# EAGLE library part MPU6050 (library SpatMuy2022)
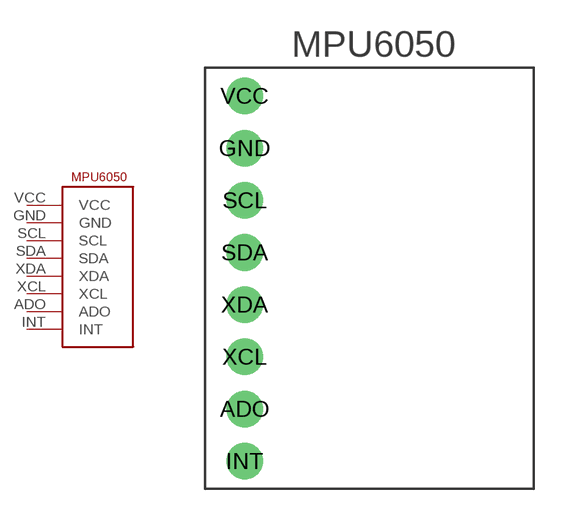
[diagram p3: symbol with the pads of MPU6050; footprint MPU6050]

Designator prefix -

## MPU6050  [MPU6050]
ADO  ADO
GND  GND
INT  INT
SCL  SCL
SDA  SDA
VCC  VCC
XCL  XCL
XDA  XDA

## Footprint MPU6050 (pad centres in mm)
drill 0.9 pad 1.778: ADO -5.08,-7.62; GND -5.08,5.08; INT -5.08,-10.16; SCL -5.08,2.54; SDA -5.08,0; VCC -5.08,7.62; XCL -5.08,-5.08; XDA -5.08,-2.54